# EAGLE library part BQ2057 (library texas)
BQ2057CTS
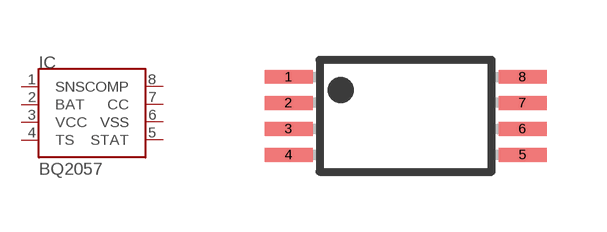
[diagram p127: symbol with the pads of TSSOP8; footprint TSSOP8]

Designator prefix IC

## BQ2057  [TSSOP8]
1  SNS
2  BAT
3  VCC
4  TS
5  STAT
6  VSS
7  CC
8  COMP

## Footprint TSSOP8 (pad centres in mm)
Plastic Small Outline
smd 1.2 x 0.35: 1 -2.925,0.975; 2 -2.925,0.325; 3 -2.925,-0.325; 4 -2.925,-0.975; 5 2.925,-0.975; 6 2.925,-0.325; 7 2.925,0.325; 8 2.925,0.975